# EAGLE library part FT230XS-R (library U-FTDI-FT230X-USB_to_UART)
UART Interface RS232, RS422, RS485, SIE, UART 3MBd, 5 V Source: Datasheet <http://www.ftdichip.com/Support/Documents/DataSheets/ICs/DS_FT230X.pdf>
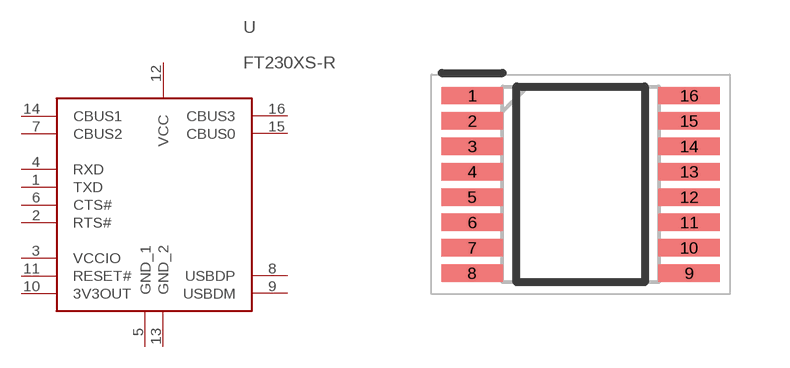
[diagram p0: symbol with the pads of SOP64P599X175-16N; footprint SOP64P599X175-16N]

Designator prefix U

## FT230XS-R (DESCRIPTION: UART Interface RS232, RS422, RS485, SIE, UART 3MBd, 5 V; MANUFACTURER: FTDI Chip; MANUFACTURER_PART_NUMBER: FT230XS-R; MOUSER_PART_NUMBER: 895-FT230XS-R)  [SOP64P599X175-16N]
1  TXD
2  RTS#
3  VCCIO  pwr
4  RXD
5  GND_1  pwr
6  CTS#
7  CBUS2
8  USBDP
9  USBDM
10  3V3OUT  out
11  RESET#
12  VCC  pwr
13  GND_2  pwr
14  CBUS1
15  CBUS0
16  CBUS3

## Footprint SOP64P599X175-16N (pad centres in mm)
SSOP-16 (MO-137AB)
smd 1.526 x 0.435: 1 -2.712,2.222; 2 -2.712,1.588; 3 -2.712,0.952; 4 -2.712,0.318; 5 -2.712,-0.318; 6 -2.712,-0.952; 7 -2.712,-1.588; 8 -2.712,-2.222; 9 2.712,-2.222; 10 2.712,-1.588; 11 2.712,-0.952; 12 2.712,-0.318; 13 2.712,0.318; 14 2.712,0.952; 15 2.712,1.588; 16 2.712,2.222